# Altium footprint library Molex Footprints.PcbLib: 498 footprints (part 8 of 32)
Each footprint in its own frame and in the unit in brackets; x right, y up, seen from the top. Pads: shape width x height; smd on the part's side, far side on the other; paste and mask are expansions set on the pad; w line width, h text height; cw(c..) or ccw(c..) is an arc to the next point about the centre after c.
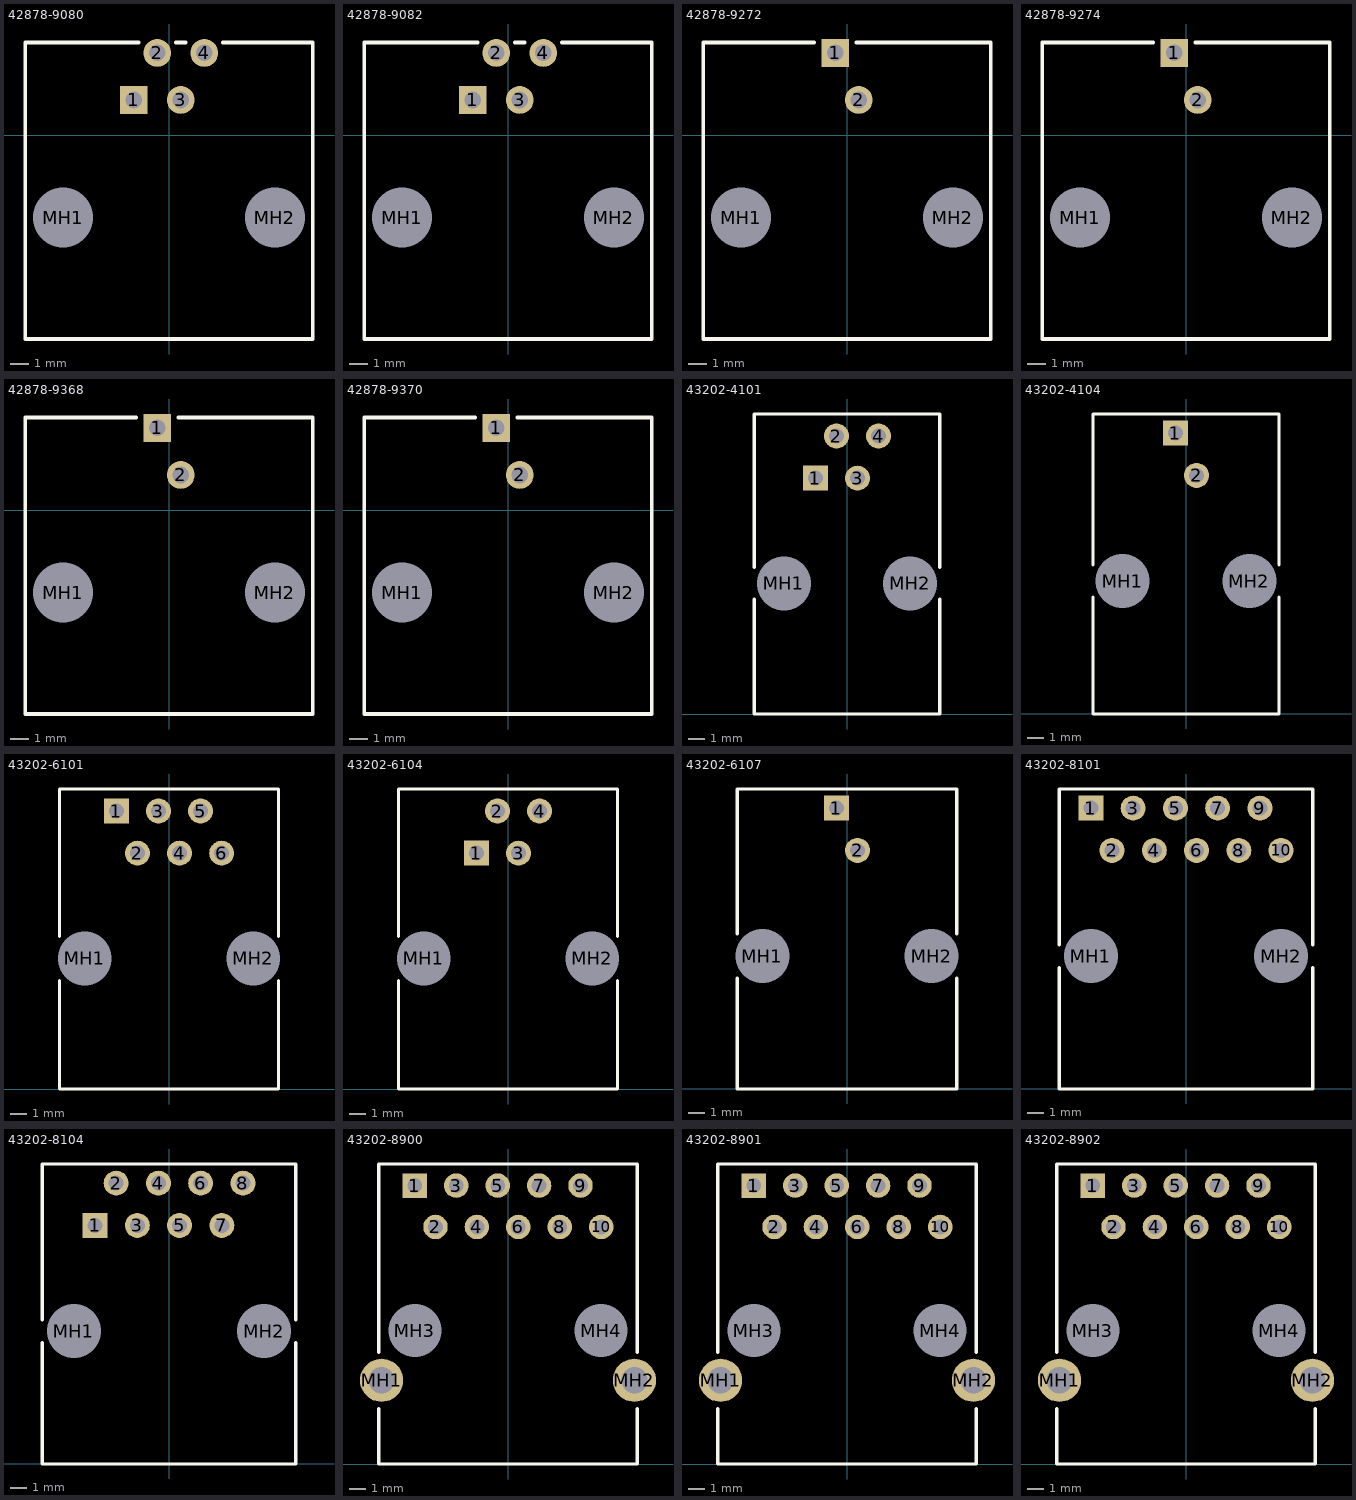
[diagram p7: the footprints below, top view; thin cyan lines are the x and y axes]

## 42878-9080 [mm] "Connector; PCB Jack, Thru-Hole; 1-Port, 8 Positions, 4 Loaded; Unshielded without Lightpipes; Vertical"
height 12.7
pads (6):
  rect 1.5x1.5 hole 0.9: 1(-1.905,1.905)
  round 1.5 hole 0.9: 2(-0.635,4.445) 3(0.635,1.905) 4(1.905,4.445)
  round 2.95 hole 3.25 unplated: MH1(-5.715,-4.445) MH2(5.715,-4.445)
Top Overlay:
  lines w0.2: -1.639,5.005 -7.75,5.005 -7.75,-10.995 7.75,-10.995 7.75,5.005 2.909,5.005 ; 0.369,5.005 0.901,5.005

## 42878-9082 [mm] "Connector; PCB Jack, Thru-Hole; 1-Port, 8 Positions, 4 Loaded; Unshielded without Lightpipes; Vertical"
height 12.7
pads (6):
  rect 1.5x1.5 hole 0.9: 1(-1.905,1.905)
  round 1.5 hole 0.9: 2(-0.635,4.445) 3(0.635,1.905) 4(1.905,4.445)
  round 2.95 hole 3.25 unplated: MH1(-5.715,-4.445) MH2(5.715,-4.445)
Top Overlay:
  lines w0.2: -1.639,5.005 -7.75,5.005 -7.75,-10.995 7.75,-10.995 7.75,5.005 2.909,5.005 ; 0.369,5.005 0.901,5.005

## 42878-9272 [mm] "Connector; PCB Jack, Thru-Hole; 1-Port, 8 Positions, 2 Loaded; Unshielded without Lightpipes; Vertical"
height 12.7
pads (4):
  rect 1.5x1.5 hole 0.9: 1(-0.635,4.445)
  round 1.5 hole 0.9: 2(0.635,1.905)
  round 2.95 hole 3.25 unplated: MH1(-5.715,-4.445) MH2(5.715,-4.445)
Top Overlay:
  lines w0.2: -1.785,5.005 -7.75,5.005 -7.75,-10.995 7.75,-10.995 7.75,5.005 0.515,5.005

## 42878-9274 [mm] "Connector; PCB Jack, Thru-Hole; 1-Port, 8 Positions, 2 Loaded; Unshielded without Lightpipes; Vertical"
height 12.7
pads (4):
  rect 1.5x1.5 hole 0.9: 1(-0.635,4.445)
  round 1.5 hole 0.9: 2(0.635,1.905)
  round 2.95 hole 3.25 unplated: MH1(-5.715,-4.445) MH2(5.715,-4.445)
Top Overlay:
  lines w0.2: -1.785,5.005 -7.75,5.005 -7.75,-10.995 7.75,-10.995 7.75,5.005 0.515,5.005

## 42878-9368 [mm] "Connector; PCB Jack, Thru-Hole; 1-Port, 8 Positions, 2 Loaded; Unshielded without Lightpipes; Vertical"
height 12.7
pads (4):
  rect 1.5x1.5 hole 0.9: 1(-0.635,4.445)
  round 1.5 hole 0.9: 2(0.635,1.905)
  round 2.95 hole 3.25 unplated: MH1(-5.715,-4.445) MH2(5.715,-4.445)
Top Overlay:
  lines w0.2: -1.785,5.005 -7.75,5.005 -7.75,-10.995 7.75,-10.995 7.75,5.005 0.515,5.005

## 42878-9370 [mm] "Connector; PCB Jack, Thru-Hole; 1-Port, 8 Positions, 2 Loaded; Unshielded without Lightpipes; Vertical"
height 12.7
pads (4):
  rect 1.5x1.5 hole 0.9: 1(-0.635,4.445)
  round 1.5 hole 0.9: 2(0.635,1.905)
  round 2.95 hole 3.25 unplated: MH1(-5.715,-4.445) MH2(5.715,-4.445)
Top Overlay:
  lines w0.2: -1.785,5.005 -7.75,5.005 -7.75,-10.995 7.75,-10.995 7.75,5.005 0.515,5.005

## 43202-4101 [mm] "Connector; PCB Jack, Thru-Hole; 1-Port, 4 Positions, 4 Loaded; Unshielded without Lightpipes; Right Angle"
height 11.58
pads (6):
  rect 1.5x1.5 hole 0.9: 1(-1.905,14.23)
  round 1.5 hole 0.9: 2(-0.635,16.77) 3(0.635,14.23) 4(1.905,16.77)
  round 2.95 hole 3.25 unplated: MH1(-3.81,7.88) MH2(3.81,7.88)
Top Overlay:
  lines w0.2: -5.59,6.914 -5.59,0 5.59,0 5.59,6.914 ; -5.59,8.846 -5.59,18.1 5.59,18.1 5.59,8.846

## 43202-4104 [mm] "Connector; PCB Jack, Thru-Hole; 1-Port, 4 Positions, 2 Loaded; Unshielded without Lightpipes; Right Angle"
height 11.58
pads (4):
  rect 1.5x1.5 hole 0.9: 1(-0.635,16.884)
  round 1.5 hole 0.9: 2(0.635,14.344)
  round 2.95 hole 3.25 unplated: MH1(-3.81,7.994) MH2(3.81,7.994)
Top Overlay:
  lines w0.2: -5.588,7.025 -5.588,0 5.588,0 5.588,7.025 ; -5.588,8.963 -5.588,18.034 5.588,18.034 5.588,8.963

## 43202-6101 [mm] "Connector; PCB Jack, Thru-Hole; 1-Port, 6 Positions, 6 Loaded; Unshielded without Lightpipes; Right Angle"
height 11.58
pads (8):
  rect 1.5x1.5 hole 0.9: 1(-3.175,16.77)
  round 1.5 hole 0.9: 2(-1.905,14.23) 3(-0.635,16.77) 4(0.635,14.23) 5(1.905,16.77) 6(3.175,14.23)
  round 2.95 hole 3.25 unplated: MH1(-5.08,7.88) MH2(5.08,7.88)
Top Overlay:
  lines w0.2: -6.605,6.548 -6.605,0 6.605,0 6.605,6.548 ; -6.605,9.212 -6.605,18.1 6.605,18.1 6.605,9.212

## 43202-6104 [mm] "Connector; PCB Jack, Thru-Hole; 1-Port, 6 Positions, 4 Loaded; Unshielded without Lightpipes; Right Angle"
height 11.58
pads (6):
  rect 1.5x1.5 hole 0.9: 1(-1.905,14.23)
  round 1.5 hole 0.9: 2(-0.635,16.77) 3(0.635,14.23) 4(1.905,16.77)
  round 2.95 hole 3.25 unplated: MH1(-5.08,7.88) MH2(5.08,7.88)
Top Overlay:
  lines w0.2: -6.605,6.548 -6.605,0 6.605,0 6.605,6.548 ; -6.605,9.212 -6.605,18.1 6.605,18.1 6.605,9.212

## 43202-6107 [mm] "Connector; PCB Jack, Thru-Hole; 1-Port, 6 Positions, 2 Loaded; Unshielded without Lightpipes; Right Angle"
height 11.58
pads (4):
  rect 1.5x1.5 hole 0.9: 1(-0.635,16.884)
  round 1.5 hole 0.9: 2(0.635,14.344)
  round 2.95 hole 3.25 unplated: MH1(-5.08,7.994) MH2(5.08,7.994)
Top Overlay:
  lines w0.2: -6.605,6.662 -6.605,0 6.605,0 6.605,6.662 ; -6.605,9.326 -6.605,18.034 6.605,18.034 6.605,9.326

## 43202-8101 [mm] "Connector; PCB Jack, Thru-Hole; 1-Port, 8 Positions, 10 Loaded; Unshielded without Lightpipes; Right Angle"
height 11.58
pads (12):
  rect 1.5x1.5 hole 0.9: 1(-5.715,16.884)
  round 1.5 hole 0.9: 2(-4.445,14.344) 3(-3.175,16.884) 4(-1.905,14.344) 5(-0.635,16.884) 6(0.635,14.344) 7(1.905,16.884) 8(3.175,14.344) 9(4.445,16.884) 10(5.715,14.344)
  round 2.95 hole 3.25 unplated: MH1(-5.715,7.994) MH2(5.715,7.994)
Top Overlay:
  lines w0.2: -7.62,7.307 -7.62,0 7.62,0 7.62,7.307 ; -7.62,8.681 -7.62,18.034 7.62,18.034 7.62,8.681

## 43202-8104 [mm] "Connector; PCB Jack, Thru-Hole; 1-Port, 8 Positions, 8 Loaded; Unshielded without Lightpipes; Right Angle"
height 11.58
pads (10):
  rect 1.5x1.5 hole 0.9: 1(-4.445,14.344)
  round 1.5 hole 0.9: 2(-3.175,16.884) 3(-1.905,14.344) 4(-0.635,16.884) 5(0.635,14.344) 6(1.905,16.884) 7(3.175,14.344) 8(4.445,16.884)
  round 2.95 hole 3.25 unplated: MH1(-5.715,7.994) MH2(5.715,7.994)
Top Overlay:
  lines w0.2: -7.62,7.307 -7.62,0 7.62,0 7.62,7.307 ; -7.62,8.681 -7.62,18.034 7.62,18.034 7.62,8.681

## 43202-8900 [mm] "Connector; PCB Jack, Thru-Hole; 1-Port, 8 Positions, 10 Loaded; Shielded without Lightpipes; Right Angle"
height 12.09
pads (14):
  rect 1.5x1.5 hole 0.9: 1(-5.715,17.069)
  round 1.5 hole 0.9: 2(-4.445,14.529) 3(-3.175,17.069) 4(-1.905,14.529) 5(-0.635,17.069) 6(0.635,14.529) 7(1.905,17.069) 8(3.175,14.529) 9(4.445,17.069) 10(5.715,14.529)
  round 2.65 hole 1.6: MH1(-7.747,5.131) MH2(7.747,5.131)
  round 2.95 hole 3.25 unplated: MH3(-5.715,8.179) MH4(5.715,8.179)
Top Overlay:
  lines w0.2: -7.925,3.407 -7.925,0 7.925,0 7.925,3.407 ; -7.925,6.855 -7.925,18.39 7.925,18.39 7.925,6.855

## 43202-8901 [mm] "Connector; PCB Jack, Thru-Hole; 1-Port, 8 Positions, 10 Loaded; Shielded without Lightpipes; Right Angle"
height 12.09
pads (14):
  rect 1.5x1.5 hole 0.9: 1(-5.715,17.069)
  round 1.5 hole 0.9: 2(-4.445,14.529) 3(-3.175,17.069) 4(-1.905,14.529) 5(-0.635,17.069) 6(0.635,14.529) 7(1.905,17.069) 8(3.175,14.529) 9(4.445,17.069) 10(5.715,14.529)
  round 2.65 hole 1.6: MH1(-7.747,5.131) MH2(7.747,5.131)
  round 2.95 hole 3.25 unplated: MH3(-5.715,8.179) MH4(5.715,8.179)
Top Overlay:
  lines w0.2: -7.925,3.407 -7.925,0 7.925,0 7.925,3.407 ; -7.925,6.855 -7.925,18.39 7.925,18.39 7.925,6.855

## 43202-8902 [mm] "Connector; PCB Jack, Thru-Hole; 1-Port, 8 Positions, 10 Loaded; Shielded without Lightpipes; Right Angle"
height 12.09
pads (14):
  rect 1.5x1.5 hole 0.9: 1(-5.715,17.069)
  round 1.5 hole 0.9: 2(-4.445,14.529) 3(-3.175,17.069) 4(-1.905,14.529) 5(-0.635,17.069) 6(0.635,14.529) 7(1.905,17.069) 8(3.175,14.529) 9(4.445,17.069) 10(5.715,14.529)
  round 2.65 hole 1.6: MH1(-7.747,5.131) MH2(7.747,5.131)
  round 2.95 hole 3.25 unplated: MH3(-5.715,8.179) MH4(5.715,8.179)
Top Overlay:
  lines w0.2: -7.925,3.407 -7.925,0 7.925,0 7.925,3.407 ; -7.925,6.855 -7.925,18.39 7.925,18.39 7.925,6.855